# Altium footprint library PCB - LEADED - MSOP - DGN0008D_N.PCBLIB: 1 footprints
Each footprint in its own frame and in the unit in brackets; x right, y up, seen from the top. Pads: shape width x height; smd on the part's side, far side on the other; paste and mask are expansions set on the pad; w line width, h text height; cw(c..) or ccw(c..) is an arc to the next point about the centre after c.
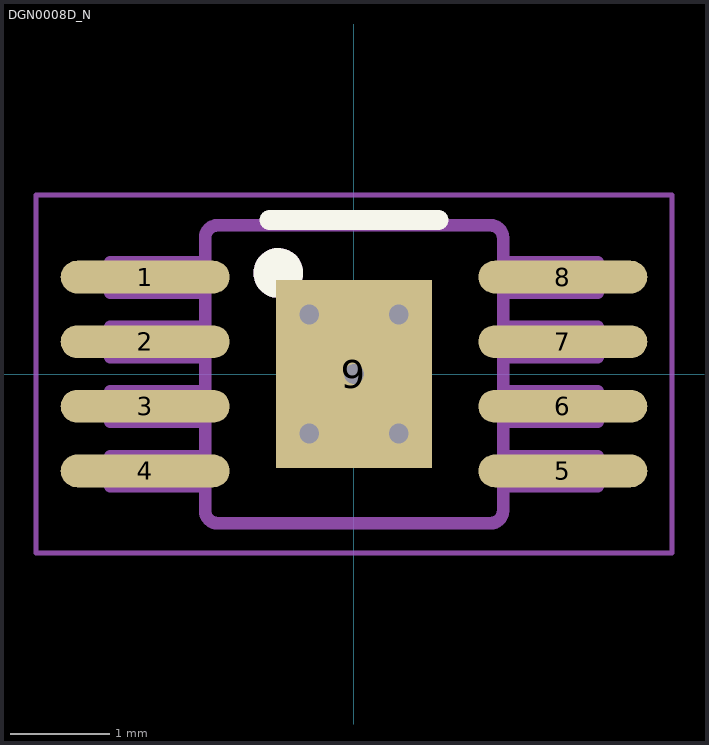
[diagram p0: the footprint, top view; thin cyan lines are the x and y axes]

## DGN0008D_N [mm]
pads (9):
  oval 1.7x0.33 smd: 1(-2.1,0.975) 2(-2.1,0.325) 3(-2.1,-0.325) 4(-2.1,-0.975) 5(2.1,-0.975) 6(2.1,-0.325) 7(2.1,0.325) 8(2.1,0.975)
  rect 1.57x1.89 smd: 9(0,0)
via -0.45,0.6 diameter 0.508 hole 0.2
via 0.45,0.6 diameter 0.508 hole 0.2
via -0.45,-0.6 diameter 0.508 hole 0.2
via 0.45,-0.6 diameter 0.508 hole 0.2
via 0,0 diameter 0.508 hole 0.2
Top Overlay:
  circle w0.25: c-0.762,1.016 r0.125
  lines w0.2: -0.85,1.55 0.85,1.55
Top Assembly:
  circle w0.25: c-0.762,1.016 r0.125
  lines w0.127: -2.45,-1.131 -2.45,-0.826 -2.21,-0.826 -2.09,-0.826 -2.087,-0.826 -1.784,-0.826 -1.498,-0.826 -1.498,-1.131 -1.784,-1.131 -2.087,-1.131 -2.09,-1.131 -2.21,-1.131 -2.45,-1.131 ; -2.45,-0.48 -2.45,-0.175 -2.21,-0.175 -2.09,-0.175 -2.087,-0.175 -1.784,-0.175 -1.498,-0.175 -1.498,-0.48 -1.784,-0.48 -2.087,-0.48 -2.09,-0.48 -2.21,-0.48 -2.45,-0.48 ; -2.45,0.17 -2.45,0.475 -2.21,0.475 -2.09,0.475 -2.087,0.475 -1.784,0.475 -1.498,0.475 -1.498,0.17 -1.784,0.17 -2.087,0.17 -2.09,0.17 -2.21,0.17 -2.45,0.17 ; -2.45,0.82 -2.45,1.125 -2.21,1.125 -2.09,1.125 -2.087,1.125 -1.784,1.125 -1.498,1.125 -1.498,0.82 -1.784,0.82 -2.087,0.82 -2.09,0.82 -2.21,0.82 -2.45,0.82 ; -1.497,-1.377 ccw(c-1.37,-1.374) -1.373,-1.501 -1.371,-1.501 1.373,-1.501 1.375,-1.501 ccw(c1.373,-1.374) 1.5,-1.377 1.5,-1.374 1.5,1.369 1.5,1.372 ccw(c1.373,1.369) 1.375,1.496 1.373,1.496 -1.371,1.496 -1.373,1.496 ccw(c-1.37,1.369) -1.497,1.372 -1.498,1.369 -1.498,-1.374 -1.497,-1.377 ; 1.5,-1.131 1.786,-1.131 2.089,-1.131 2.093,-1.131 2.213,-1.131 2.452,-1.131 2.452,-0.826 2.213,-0.826 2.093,-0.826 2.089,-0.826 1.786,-0.826 1.5,-0.826 1.5,-1.131 ; 1.5,-0.48 1.786,-0.48 2.089,-0.48 2.093,-0.48 2.213,-0.48 2.452,-0.48 2.452,-0.175 2.213,-0.175 2.093,-0.175 2.089,-0.175 1.786,-0.175 1.5,-0.175 1.5,-0.48 ; 1.5,0.17 1.786,0.17 2.089,0.17 2.093,0.17 2.213,0.17 2.452,0.17 2.452,0.475 2.213,0.475 2.093,0.475 2.089,0.475 1.786,0.475 1.5,0.475 1.5,0.17 ; 1.5,0.82 1.786,0.82 2.089,0.82 2.093,0.82 2.213,0.82 2.452,0.82 2.452,1.125 2.213,1.125 2.093,1.125 2.089,1.125 1.786,1.125 1.5,1.125 1.5,0.82
Top Courtyard:
  lines w0.05: -3.2,-1.8 -3.2,1.8 3.2,1.8 3.2,-1.8 -3.2,-1.8
Top Designator:
  text ".Designator" at 3.175,0 h1
  text ".Comment" at 3.175,-1.27 h1
Top Component Center:
  lines w0.1: -0.5,0 0.5,0 ; 0,-0.5 0,0.5
3D body "DGN0008.stp": height 0.94, standoff -0.02, extent -2.451,-1.499 2.451,1.498